# Altium footprint library Daxxn_Connectors.PcbLib: 65 footprints (part 4 of 5)
Each footprint in its own frame and in the unit in brackets; x right, y up, seen from the top. Pads: shape width x height; smd on the part's side, far side on the other; paste and mask are expansions set on the pad; w line width, h text height; cw(c..) or ccw(c..) is an arc to the next point about the centre after c.
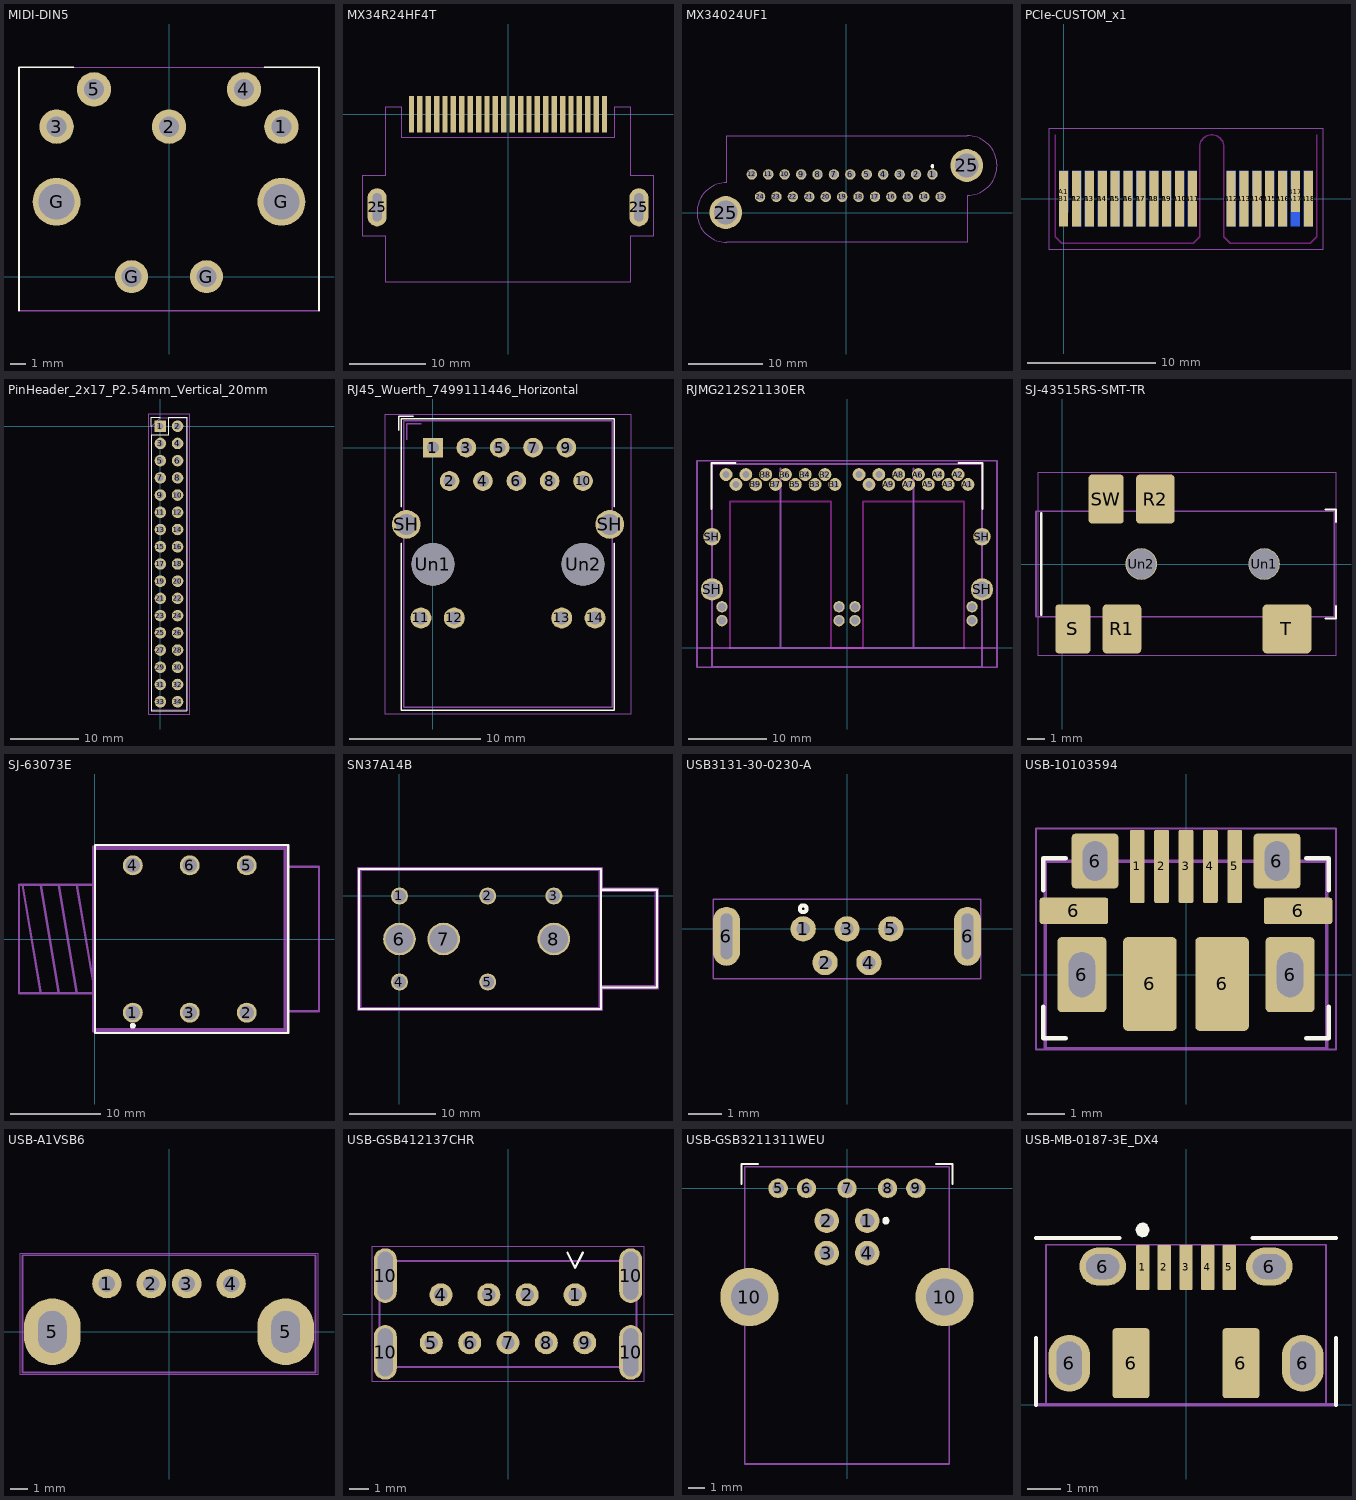
[diagram p3: the footprints below, top view; thin cyan lines are the x and y axes]

## MIDI-DIN5 [mm]
pads (9):
  round 2.3 hole 1.35: 1(7.505,10.01) 2(0,10.01) 3(-7.505,10.01) 4(5.005,12.5) 5(-5.005,12.5)
  round 3.2 hole 2.39: G(-7.505,5) G(7.505,5)
  round 2.2 hole 1.35: G(-2.5,0) G(2.5,0)
F.SilkS:
  lines w0.12: -10.01,-2.27 -10.01,13.97 -6.35,13.97 ; 6.35,13.97 10.01,13.97 10.01,-2.27
F.CrtYd:
  lines w0.05: -10.01,-2.27 -10.01,13.97 ; 10.01,-2.27 10.01,13.97 ; -10.01,13.97 10.01,13.97 ; -10.01,13.97 10.01,13.97
F.Fab:
  lines w0.12: -10.01,-2.27 10.01,-2.27
  text "'.Designator'" at -4.047,16.94 h1

## MX34R24HF4T [mm]
pads (26):
  rrect5% 0.7x4.8 smd: 1(12.65,0) 2(11.55,0) 3(10.45,0) 4(9.35,0) 5(8.25,0) 6(7.15,0) 7(6.05,0) 8(4.95,0) 9(3.85,0) 10(2.75,0) 11(1.65,0) 12(0.55,0) 13(-0.55,0) 14(-1.65,0) 15(-2.75,0) 16(-3.85,0) 17(-4.95,0) 18(-6.05,0) 19(-7.15,0) 20(-8.25,0) 21(-9.35,0) 22(-10.45,0) 23(-11.55,0) 24(-12.65,0)
  rrect100% 2.5x5 hole 3.7 slot 1.2 at 0 deg: 25(-17.15,-12.2) 25(17.15,-12.2)
F.CrtYd:
  lines w0.05: -19,-16 -19,-8 -16,-8 -16,1 -14,1 -14,-3 14,-3 14,1 16,1 16,-8 19,-8 19,-16 16,-16 16,-22 -16,-22 -16,-16 -19,-16
F.Fab:
  text "'.Designator'" at -4.047,-4.84 h1

## MX34024UF1 [mm]
pads (26):
  round 1.4 hole 1: 1(11.55,5.1) 2(9.35,5.1) 3(7.15,5.1) 4(4.95,5.1) 5(2.75,5.1) 6(0.55,5.1) 7(-1.65,5.1) 8(-3.85,5.1) 9(-6.05,5.1) 10(-8.25,5.1) 11(-10.45,5.1) 12(-12.65,5.1) 13(12.65,2.1) 14(10.45,2.1) 15(8.25,2.1) 16(6.05,2.1) 17(3.85,2.1) 18(1.65,2.1) 19(-0.55,2.1) 20(-2.75,2.1) 21(-4.95,2.1) 22(-7.15,2.1) 23(-9.35,2.1) 24(-11.55,2.1)
  round 4.4 hole 3.2: 25(-16.15,0) 25(16.15,6.3)
F.SilkS:
  circle w0: c11.55,6.2 r0.2
  region: 11.628,6.388 11.694,6.344 11.738,6.278 11.754,6.2 11.738,6.122 11.694,6.056 11.628,6.012 11.55,5.996 11.472,6.012 11.406,6.056 11.362,6.122 11.346,6.2 11.362,6.278 11.406,6.344 11.472,6.388 11.55,6.404
F.CrtYd:
  lines w0.05: -16,-4 16.2,-4 16.2,2.3 ccw(c16.2,6.3) 16.2,10.3 -16,10.3 -16,4 ccw(c-16,0) -16,-4
F.Fab:
  text "'.Designator'" at -4.047,6.86 h1

## PCIe-CUSTOM_x1 [mm]
pads (36):
  rect 0.7x3.2 smd far side: A1(0,0.55)
  rect 0.7x4.3 smd far side: A2(1,0) A3(2,0) A4(3,0) A5(4,0) A6(5,0) A7(6,0) A8(7,0) A9(8,0) A10(9,0) A11(10,0) A12(13,0) A13(14,0) A14(15,0) A15(16,0) A16(17,0) A17(18,0) A18(19,0)
  rect 0.7x4.3 smd: B1(0,0) B2(1,0) B3(2,0) B4(3,0) B5(4,0) B6(5,0) B7(6,0) B8(7,0) B9(8,0) B10(9,0) B11(10,0) B12(13,0) B13(14,0) B14(15,0) B15(16,0) B16(17,0) B18(19,0)
  rect 0.7x3.2 smd: B17(18,0.55)
Edge.Cuts:
  lines w0.1: -0.65,4.95 -0.65,-2.95 -0.15,-3.45 10.05,-3.45 10.55,-2.95 10.55,4 cw(c11.5,4) 12.45,4 12.45,-2.95 12.95,-3.45 19.15,-3.45 19.65,-2.95 19.65,4.95
F.CrtYd:
  lines w0.05: -1.15,-3.95 20.15,-3.95 20.15,5.45 -1.15,5.45 -1.15,-3.95
F.Fab:
  text "'.Designator'" at 11.953,2.66 h1
Cmts.User:
  text "PCB Thickness 1.57 mm" at 0.697,-3.162 h0.5

## PinHeader_2x17_P2.54mm_Vertical_20mm [mm]
pads (34):
  rect 1.7x1.7 hole 1: 1(0,0)
  rrect100% 1.7x1.7 hole 1: 2(2.54,0) 3(0,-2.54) 4(2.54,-2.54) 5(0,-5.08) 6(2.54,-5.08) 7(0,-7.62) 8(2.54,-7.62) 9(0,-10.16) 10(2.54,-10.16) 11(0,-12.7) 12(2.54,-12.7) 13(0,-15.24) 14(2.54,-15.24) 15(0,-17.78) 16(2.54,-17.78) 17(0,-20.32) 18(2.54,-20.32) 19(0,-22.86) 20(2.54,-22.86) 21(0,-25.4) 22(2.54,-25.4) 23(0,-27.94) 24(2.54,-27.94) 25(0,-30.48) 26(2.54,-30.48) 27(0,-33.02) 28(2.54,-33.02) 29(0,-35.56) 30(2.54,-35.56) 31(0,-38.1) 32(2.54,-38.1) 33(0,-40.64) 34(2.54,-40.64)
F.SilkS:
  lines w0.12: -1.33,0 -1.33,1.33 0,1.33 ; -1.33,-41.97 -1.33,-1.27 1.27,-1.27 1.27,1.33 3.87,1.33 3.87,-41.97 -1.33,-41.97
F.CrtYd:
  lines w0.05: -1.8,-42.45 4.35,-42.45 4.35,1.8 -1.8,1.8 -1.8,-42.45
F.Fab:
  lines w0.1: -1.27,-41.91 3.81,-41.91 3.81,1.27 0,1.27 -1.27,0 -1.27,-41.91
  text "'.Designator'" at 2.11,-24.367 h1

## RJ45_Wuerth_7499111446_Horizontal [mm]
pads (18):
  rect 1.5x1.5 hole 0.9: 1(0,0)
  round 1.5 hole 0.9: 2(1.27,-2.54) 3(2.54,0) 4(3.81,-2.54) 5(5.08,0) 6(6.35,-2.54) 7(7.62,0) 8(8.89,-2.54) 9(10.16,0) 10(11.43,-2.54)
  round 1.6 hole 1.02: 11(-0.915,-12.97) 12(1.625,-12.97) 13(9.805,-12.97) 14(12.345,-12.97)
  round 2.2 hole 1.6: SH(-2.03,-5.84) SH(13.46,-5.84)
  round 3.25 hole 3.25: Un1(0,-8.89) Un2(11.43,-8.89)
F.SilkS:
  lines w0.12: -2.6,1.31 -2.6,2.4 -1.485,2.4 ; -2.4,-7.29 -2.4,-20 13.8,-20 13.8,-7.29 ; -2.4,-4.49 -2.4,2.2 13.8,2.2 13.8,-4.49
F.CrtYd:
  lines w0.05: -3.63,-20.28 15.06,-20.28 15.06,2.56 -3.63,2.56 -3.63,-20.28
F.Fab:
  lines w0.1: -1.985,0.61 -1.985,1.81 -0.885,1.81 ; -2.225,-19.78 13.655,-19.78 13.655,2.06 -2.225,2.06 -2.225,-19.78
  text "'.Designator'" at 9.762,-8.05 h1

## RJMG212S21130ER [mm]
pads (36):
  round 1.65 hole 0.91: A1(15.52,20.96) A2(14.25,22.23) A3(12.98,20.96) A4(11.71,22.23) A5(10.44,20.96) A6(9.17,22.23) A7(7.9,20.96) A8(6.63,22.23) A9(5.36,20.96) A10(4.09,22.23) A11(2.82,20.96) A12(1.55,22.23) B1(-1.55,20.96) B2(-2.82,22.23) B3(-4.09,20.96) B4(-5.36,22.23) B5(-6.63,20.96) B6(-7.9,22.23) B7(-9.17,20.96) B8(-10.44,22.23) B9(-11.71,20.96) B10(-12.98,22.23) B11(-14.25,20.96) B12(-15.52,22.23)
  round 1.45 hole 1.02: AL1(1.015,5.26) AL2(1.015,3.48) AL3(16.055,5.26) AL4(16.055,3.48) BL1(-1.015,5.26) BL2(-1.015,3.48) BL3(-16.055,5.26) BL4(-16.055,3.48)
  round 2.85 hole 2.03: SH(-17.325,7.49) SH(17.325,7.49)
  round 2.25 hole 1.52: SH(-17.325,14.25) SH(17.325,14.25)
F.SilkS:
  lines w0.254: -17.4,17.8 -17.4,23.7 -14.3,23.7 ; 14.3,23.7 17.4,23.7 17.4,17.8
B.SilkS:
  region: -0.1,21.8 -0.7,21.7 -0.5,22.3
  region: 16.9,21.8 16.3,21.7 16.5,22.3
Edge.Cuts:
  lines w0.254: -19,0 -15.035,0 -15.035,18.75 -2.03,18.75 -2.03,0 2.03,0 2.03,18.75 15.035,18.75 15.035,0 19,0
F.CrtYd:
  lines w0.254: -19.25,-2.5 -19.25,24 19.25,24 19.25,-2.5 -19.25,-2.5
F.Fab:
  lines w0.254: -17.325,-2.46 -17.325,23.6 17.325,23.6 17.325,-2.46 -17.325,-2.46
  text "'.Designator'" at -2.011,16.792 h0.5
Cmts.User:
  lines w0.254: -15.035,0 15.035,0 ; -8.535,0 -8.535,23 ; 8.535,0 8.535,23
  text "JACK B" at -11.283,0.35 h1
  text "JACK A" at 5.77,0.35 h1

## SJ-43515RS-SMT-TR [mm]
pads (7):
  rrect20% 2.2x2.8 smd: R1(3.4,-3.7) R2(5.3,3.7)
  rrect20% 2x2.8 smd: S(0.6,-3.7) SW(2.5,3.7)
  rrect20% 2.8x2.8 smd: T(12.8,-3.7)
  round 1.8 hole 1.7: Un1(11.5,0) Un2(4.5,0)
F.SilkS:
  lines w0.12: -1.2,-2.9 -1.2,2.9 ; 15,-3.1 15.6,-3.1 15.6,-2.4 ; 15,3.1 15.6,3.1 15.6,2.4
F.CrtYd:
  lines w0.05: -1.4,-5.2 -1.4,5.2 15.6,5.2 15.6,-5.2 -1.4,-5.2
F.Fab:
  lines w0.1: -1.5,-3 -1.5,3 15.5,3 15.5,-3 -1.5,-3
  text "'.Designator'" at 3.953,7.16 h1

## SJ-63073E [mm]
pads (6):
  round 2.2 hole 1.6: 1(4.2,-8.15) 2(16.8,-8.15) 3(10.5,-8.15) 4(4.2,8.15) 5(16.8,8.15) 6(10.5,8.15)
F.SilkS:
  circle w0.254: c4.2,-9.6 r0.2
  region: 4.278,-9.412 4.344,-9.456 4.388,-9.522 4.404,-9.6 4.388,-9.678 4.344,-9.744 4.278,-9.788 4.2,-9.804 4.122,-9.788 4.056,-9.744 4.012,-9.678 3.996,-9.6 4.012,-9.522 4.056,-9.456 4.122,-9.412 4.2,-9.396
  lines w0.254: 0,-10.4 0,10.4 21.4,10.4 21.4,-10.4 0,-10.4
B.SilkS:
  circle w0.254: c4.2,-9.6 r0.2
  region: 4.278,-9.412 4.344,-9.456 4.388,-9.522 4.404,-9.6 4.388,-9.678 4.344,-9.744 4.278,-9.788 4.2,-9.804 4.122,-9.788 4.056,-9.744 4.012,-9.678 3.996,-9.6 4.012,-9.522 4.056,-9.456 4.122,-9.412 4.2,-9.396
F.CrtYd:
  lines w0.254: -0.2,-10.2 -0.2,10.2 21.2,10.2 21.2,-10.2 -0.2,-10.2
F.Fab:
  lines w0.254: -8,6 -6,-6 ; -6,6 -4,-6 ; -4,6 -2,-6 ; -2,6 0,-6 ; 0,-6 -8.4,-6 -8.4,6 0,6 0,-6 ; 0,-10 0,10 21,10 21,-10 0,-10 ; 21,-8 21,8 24.8,8 24.8,-8 21,-8
  text "'.Designator'" at 20.87,-2.073 h0.5

## SN37A14B [mil]
pads (8):
  round 77 hole 57: 1(0,0) 2(400,0) 3(700,0) 4(0,-390) 5(400,-390)
  round 148 hole 128: 6(0,-195) 7(200,-195) 8(700,-195)
F.SilkS:
  lines w10: 624.9,-512.5 -183,-512.5 ; 905.1,-512.5 913,-512.5 ; 913.39,-414.5 1167,-414.5 1167,28.5 913,28.5 913,122.5 ; -183,-512.5 -183,122.5 ; -183,-512.5 -183,122.5 ; -183,-512.5 913,-512.5 ; -183,122.5 913,122.5 ; -183,122.5 913,122.5 ; 913,-512.5 913,122.5
B.SilkS:
  circle w10: c-66.93,0 r15
F.CrtYd:
  lines w10: -188,-517.5 -188,127.5 918,127.5 918,33.5 1172,33.5 1172,-419.5 918,-419.5 918,-517.5 -188,-517.5
F.Fab:
  lines w10: 908,-409.5 1162,-409.5 1162,23.5 908,23.5 ; -178,-507.5 -178,117.5 908,117.5 908,-507.5 -178,-507.5

## USB3131-30-0230-A [mm]
pads (7):
  round 0.75 hole 0.4: 1(-1.3,0) 2(-0.65,-1) 3(0,0) 4(0.65,-1) 5(1.3,0)
  rrect100% 0.8x1.75 hole 1.35 slot 0.35 at 0 deg: 6(-3.575,-0.22) 6(3.575,-0.22)
F.SilkS:
  circle w0.12: c-1.3,0.6 r0.1
F.CrtYd:
  lines w0.05: -3.97,-1.475 -3.97,0.875 3.97,0.875 3.97,-1.475 -3.97,-1.475
F.Fab:
  text "'.Designator'" at -0.829,0.412 h0.2

## USB-10103594 [mm]
pads (13):
  rrect25% 0.4x1.95 smd: 1(-1.3,2.885) 2(-0.65,2.885) 3(0,2.885) 4(0.65,2.885) 5(1.3,2.885)
  rrect16% 1.825x0.7 smd: 6(-2.987,1.7) 6(2.987,1.7)
  rrect16% 1.3x2 hole 1.2 slot 0.7 at 0 deg: 6(-2.775,0) 6(2.775,0)
  rrect16% 1.25x1.46 hole 1.05 slot 0.65 at 0 deg: 6(-2.425,3.03) 6(2.425,3.03)
  rrect16% 1.425x2.5 smd: 6(-0.962,-0.25) 6(0.962,-0.25)
F.SilkS:
  lines w0.12: -3.8,-0.85 -3.8,-1.7 -3.2,-1.7 ; -3.8,2.25 -3.8,3.1 -3.2,3.1 ; 3.2,-1.7 3.8,-1.7 3.8,-0.85 ; 3.2,3.1 3.8,3.1 3.8,2.25
F.CrtYd:
  lines w0.05: -4,-2 -4,3.9 4,3.9 4,-2 -4,-2
F.Fab:
  lines w0.1: -3.75,-1.975 -3.75,3.025 3.75,3.025 3.75,-1.975 -3.75,-1.975
  text "'.Designator'" at -4.047,6.435 h1

## USB-A1VSB6 [mm]
pads (6):
  round 1.65 hole 0.94: 1(-3.5,2.71) 2(-1,2.71) 3(1,2.71) 4(3.5,2.71)
  rrect100% 3.2x3.75 hole 2.35 slot 1.6 at 0 deg: 5(-6.57,0) 5(6.57,0)
F.CrtYd:
  lines w0.05: -8.4,-2.4 -8.4,4.4 8.4,4.4 8.4,-2.4 -8.4,-2.4
F.Fab:
  lines w0.1: -8.25,-2.3 -8.25,4.31 8.25,4.31 8.25,-2.3 -8.25,-2.3
  text "'.Designator'" at -4.047,5.66 h1

## USB-GSB412137CHR [mm]
pads (13):
  round 1.2 hole 0.7: 1(3.5,1) 2(1,1) 3(-1,1) 4(-3.5,1) 5(-4,-1.5) 6(-2,-1.5) 7(0,-1.5) 8(2,-1.5) 9(4,-1.5)
  rrect100% 1.2x2.85 hole 2.5 slot 0.8 at 0 deg: 10(-6.4,-2) 10(-6.4,2) 10(6.4,-2) 10(6.4,2)
F.SilkS:
  lines w0.12: 3.1,3.2 3.5,2.4 3.9,3.2
F.CrtYd:
  lines w0.05: -7.1,-3.5 -7.1,3.5 7.1,3.5 7.1,-3.5 -7.1,-3.5
F.Fab:
  lines w0.1: -6.7,-2.76 -6.7,2.76 6.7,2.76 6.7,-2.76 -6.7,-2.76
  text "'.Designator'" at -4.047,6.26 h1

## USB-GSB3211311WEU [mm]
pads (11):
  round 1.52 hole 0.92: 1(1.25,-2) 2(-1.25,-2) 3(-1.25,-4) 4(1.25,-4)
  round 1.2 hole 0.7: 5(-4.25,0) 6(-2.5,0) 7(0,0) 8(2.5,0) 9(4.25,0)
  round 3.6 hole 2.3: 10(-6.02,-6.71) 10(6.02,-6.71)
F.SilkS:
  circle w0: c2.4,-2 r0.2
  region: 2.478,-1.812 2.544,-1.856 2.588,-1.922 2.604,-2 2.588,-2.078 2.544,-2.144 2.478,-2.188 2.4,-2.204 2.322,-2.188 2.256,-2.144 2.212,-2.078 2.196,-2 2.212,-1.922 2.256,-1.856 2.322,-1.812 2.4,-1.796
  lines w0.12: -6.5,0.25 -6.5,1.5 -5.5,1.5 ; 5.5,1.5 6.5,1.5 6.5,0.25
F.Fab:
  lines w0.1: -6.3,-17.01 -6.3,1.34 6.3,1.34 6.3,-17.01 -6.3,-17.01
  text "'.Designator'" at -4.047,1.46 h1

## USB-MB-0187-3E_DX4 [mm]
pads (11):
  rrect15% 0.4x1.35 smd: 1(-1.3,4.125) 2(-0.65,4.125) 3(0,4.125) 4(0.65,4.125) 5(1.3,4.125)
  rrect100% 1.25x1.7 hole 1.3 slot 0.75 at 0 deg: 6(-3.5,1.25) 6(3.5,1.25)
  rrect100% 1.4x1.15 hole 0.75 slot 1 at 0 deg: 6(-2.5,4.15) 6(2.5,4.15)
  rrect15% 1.1x2.1 smd: 6(-1.65,1.25) 6(1.65,1.25)
F.SilkS:
  circle w0: c-1.3,5.25 r0.2
  region: -1.222,5.438 -1.156,5.394 -1.112,5.328 -1.096,5.25 -1.112,5.172 -1.156,5.106 -1.222,5.062 -1.3,5.046 -1.378,5.062 -1.444,5.106 -1.488,5.172 -1.504,5.25 -1.488,5.328 -1.444,5.394 -1.378,5.438 -1.3,5.454
  lines w0.12: -4.5,0 -4.5,2 ; -4.5,5 -2,5 ; 2,5 4.5,5 ; 4.5,0 4.5,2
F.CrtYd:
  lines w0.05: -4.2,0 -4.2,4.8 4.2,4.8 4.2,0 -4.2,0
F.Fab:
  lines w0.1: -4.5,0 4.5,0
  text "'.Designator'" at -4.047,-3.34 h1